# EAGLE library part ATSAME70N19 (library Atmel)
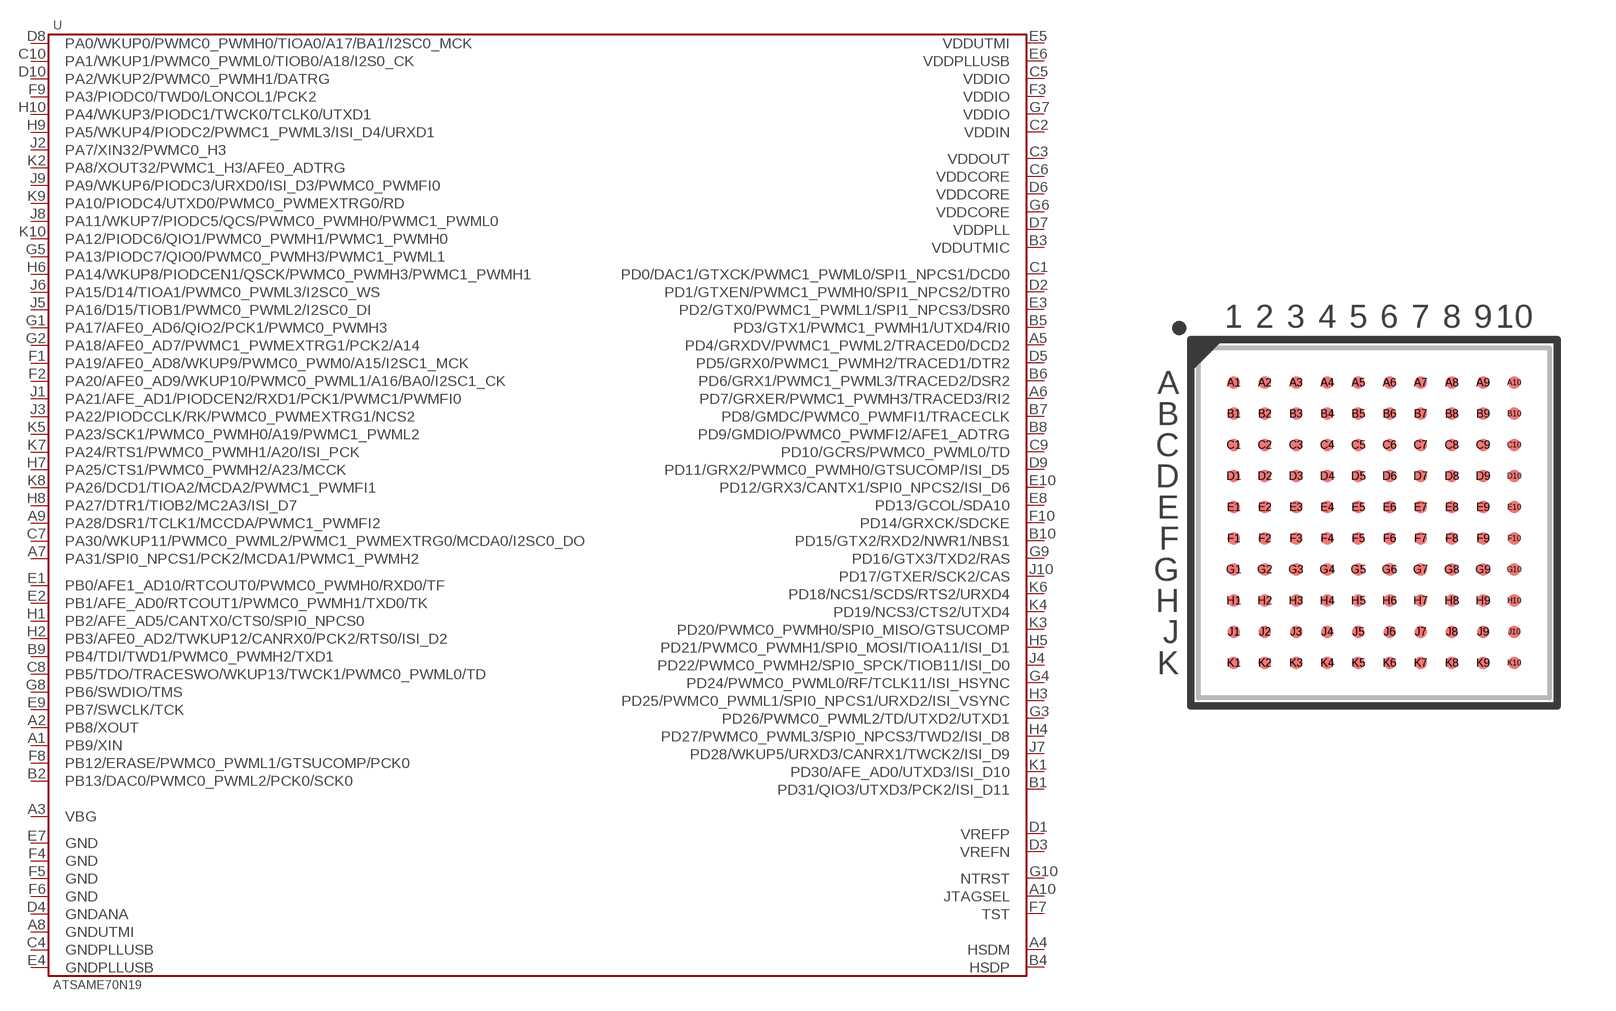
[diagram p25: symbol with the pads of TFBGA-100-9MM; footprint TFBGA-100-9MM]

Designator prefix U

## ATSAME70N19A-CN  [TFBGA-100-9MM]
A1  PB9/XIN
A2  PB8/XOUT
A3  VBG
A4  HSDM
A5  PD4/GRXDV/PWMC1_PWML2/TRACED0/DCD2
A6  PD7/GRXER/PWMC1_PWMH3/TRACED3/RI2
A7  PA31/SPI0_NPCS1/PCK2/MCDA1/PWMC1_PWMH2
A8  GNDUTMI
A9  PA28/DSR1/TCLK1/MCCDA/PWMC1_PWMFI2
A10  JTAGSEL
B1  PD31/QIO3/UTXD3/PCK2/ISI_D11
B2  PB13/DAC0/PWMC0_PWML2/PCK0/SCK0
B3  VDDUTMIC
B4  HSDP
B5  PD3/GTX1/PWMC1_PWMH1/UTXD4/RI0
B6  PD6/GRX1/PWMC1_PWML3/TRACED2/DSR2
B7  PD8/GMDC/PWMC0_PWMFI1/TRACECLK
B8  PD9/GMDIO/PWMC0_PWMFI2/AFE1_ADTRG
B9  PB4/TDI/TWD1/PWMC0_PWMH2/TXD1
B10  PD15/GTX2/RXD2/NWR1/NBS1
C1  PD0/DAC1/GTXCK/PWMC1_PWML0/SPI1_NPCS1/DCD0
C2  VDDIN
C3  VDDOUT
C4  GNDPLLUSB
C5  VDDIO
C6  VDDCORE
C7  PA30/WKUP11/PWMC0_PWML2/PWMC1_PWMEXTRG0/MCDA0/I2SC0_DO
C8  PB5/TDO/TRACESWO/WKUP13/TWCK1/PWMC0_PWML0/TD
C9  PD10/GCRS/PWMC0_PWML0/TD
C10  PA1/WKUP1/PWMC0_PWML0/TIOB0/A18/I2S0_CK
D1  VREFP
D2  PD1/GTXEN/PWMC1_PWMH0/SPI1_NPCS2/DTR0
D3  VREFN
D4  GNDANA
D5  PD5/GRX0/PWMC1_PWMH2/TRACED1/DTR2
D6  VDDCORE
D7  VDDPLL
D8  PA0/WKUP0/PWMC0_PWMH0/TIOA0/A17/BA1/I2SC0_MCK
D9  PD11/GRX2/PWMC0_PWMH0/GTSUCOMP/ISI_D5
D10  PA2/WKUP2/PWMC0_PWMH1/DATRG
E1  PB0/AFE1_AD10/RTCOUT0/PWMC0_PWMH0/RXD0/TF
E2  PB1/AFE_AD0/RTCOUT1/PWMC0_PWMH1/TXD0/TK
E3  PD2/GTX0/PWMC1_PWML1/SPI1_NPCS3/DSR0
E4  GNDPLLUSB
E5  VDDUTMI
E6  VDDPLLUSB
E7  GND
E8  PD13/GCOL/SDA10
E9  PB7/SWCLK/TCK
E10  PD12/GRX3/CANTX1/SPI0_NPCS2/ISI_D6
F1  PA19/AFE0_AD8/WKUP9/PWMC0_PWM0/A15/I2SC1_MCK
F2  PA20/AFE0_AD9/WKUP10/PWMC0_PWML1/A16/BA0/I2SC1_CK
F3  VDDIO
F4  GND
F5  GND
F6  GND
F7  TST
F8  PB12/ERASE/PWMC0_PWML1/GTSUCOMP/PCK0
F9  PA3/PIODC0/TWD0/LONCOL1/PCK2
F10  PD14/GRXCK/SDCKE
G1  PA17/AFE0_AD6/QIO2/PCK1/PWMC0_PWMH3
G2  PA18/AFE0_AD7/PWMC1_PWMEXTRG1/PCK2/A14
G3  PD26/PWMC0_PWML2/TD/UTXD2/UTXD1
G4  PD24/PWMC0_PWML0/RF/TCLK11/ISI_HSYNC
G5  PA13/PIODC7/QIO0/PWMC0_PWMH3/PWMC1_PWML1
G6  VDDCORE
G7  VDDIO
G8  PB6/SWDIO/TMS
G9  PD16/GTX3/TXD2/RAS
G10  NTRST
H1  PB2/AFE_AD5/CANTX0/CTS0/SPI0_NPCS0
H2  PB3/AFE0_AD2/TWKUP12/CANRX0/PCK2/RTS0/ISI_D2
H3  PD25/PWMC0_PWML1/SPI0_NPCS1/URXD2/ISI_VSYNC
H4  PD27/PWMC0_PWML3/SPI0_NPCS3/TWD2/ISI_D8
H5  PD21/PWMC0_PWMH1/SPI0_MOSI/TIOA11/ISI_D1
H6  PA14/WKUP8/PIODCEN1/QSCK/PWMC0_PWMH3/PWMC1_PWMH1
H7  PA25/CTS1/PWMC0_PWMH2/A23/MCCK
H8  PA27/DTR1/TIOB2/MC2A3/ISI_D7
H9  PA5/WKUP4/PIODC2/PWMC1_PWML3/ISI_D4/URXD1
H10  PA4/WKUP3/PIODC1/TWCK0/TCLK0/UTXD1
J1  PA21/AFE_AD1/PIODCEN2/RXD1/PCK1/PWMC1/PWMFI0
J2  PA7/XIN32/PWMC0_H3
J3  PA22/PIODCCLK/RK/PWMC0_PWMEXTRG1/NCS2
J4  PD22/PWMC0_PWMH2/SPI0_SPCK/TIOB11/ISI_D0
J5  PA16/D15/TIOB1/PWMC0_PWML2/I2SC0_DI
J6  PA15/D14/TIOA1/PWMC0_PWML3/I2SC0_WS
J7  PD28/WKUP5/URXD3/CANRX1/TWCK2/ISI_D9
J8  PA11/WKUP7/PIODC5/QCS/PWMC0_PWMH0/PWMC1_PWML0
J9  PA9/WKUP6/PIODC3/URXD0/ISI_D3/PWMC0_PWMFI0
J10  PD17/GTXER/SCK2/CAS
K1  PD30/AFE_AD0/UTXD3/ISI_D10
K2  PA8/XOUT32/PWMC1_H3/AFE0_ADTRG
K3  PD20/PWMC0_PWMH0/SPI0_MISO/GTSUCOMP
K4  PD19/NCS3/CTS2/UTXD4
K5  PA23/SCK1/PWMC0_PWMH0/A19/PWMC1_PWML2
K6  PD18/NCS1/SCDS/RTS2/URXD4
K7  PA24/RTS1/PWMC0_PWMH1/A20/ISI_PCK
K8  PA26/DCD1/TIOA2/MCDA2/PWMC1_PWMFI1
K9  PA10/PIODC4/UTXD0/PWMC0_PWMEXTRG0/RD
K10  PA12/PIODC6/QIO1/PWMC0_PWMH1/PWMC1_PWMH0

## Footprint TFBGA-100-9MM (pad centres in mm)
smd 0.32 x 0.32: A1 -3.6,3.6; A2 -2.8,3.6; A3 -2,3.6; A4 -1.2,3.6; A5 -0.4,3.6; A6 0.4,3.6; A7 1.2,3.6; A8 2,3.6; A9 2.8,3.6; A10 3.6,3.6; B1 -3.6,2.8; B2 -2.8,2.8; B3 -2,2.8; B4 -1.2,2.8; B5 -0.4,2.8; B6 0.4,2.8; B7 1.2,2.8; B8 2,2.8; B9 2.8,2.8; B10 3.6,2.8; C1 -3.6,2; C2 -2.8,2; C3 -2,2; C4 -1.2,2; C5 -0.4,2; C6 0.4,2; C7 1.2,2; C8 2,2; C9 2.8,2; C10 3.6,2; D1 -3.6,1.2; D2 -2.8,1.2; D3 -2,1.2; D4 -1.2,1.2; D5 -0.4,1.2; D6 0.4,1.2; D7 1.2,1.2; D8 2,1.2; D9 2.8,1.2; D10 3.6,1.2; E1 -3.6,0.4; E2 -2.8,0.4; E3 -2,0.4; E4 -1.2,0.4; E5 -0.4,0.4; E6 0.4,0.4; E7 1.2,0.4; E8 2,0.4; E9 2.8,0.4; E10 3.6,0.4; F1 -3.6,-0.4; F2 -2.8,-0.4; F3 -2,-0.4; F4 -1.2,-0.4; F5 -0.4,-0.4; F6 0.4,-0.4; F7 1.2,-0.4; F8 2,-0.4; F9 2.8,-0.4; F10 3.6,-0.4; G1 -3.6,-1.2; G2 -2.8,-1.2; G3 -2,-1.2; G4 -1.2,-1.2; G5 -0.4,-1.2; G6 0.4,-1.2; G7 1.2,-1.2; G8 2,-1.2; G9 2.8,-1.2; G10 3.6,-1.2; H1 -3.6,-2; H2 -2.8,-2; H3 -2,-2; H4 -1.2,-2; H5 -0.4,-2; H6 0.4,-2; H7 1.2,-2; H8 2,-2; H9 2.8,-2; H10 3.6,-2; J1 -3.6,-2.8; J2 -2.8,-2.8; J3 -2,-2.8; J4 -1.2,-2.8; J5 -0.4,-2.8; J6 0.4,-2.8; J7 1.2,-2.8; J8 2,-2.8; J9 2.8,-2.8; J10 3.6,-2.8; K1 -3.6,-3.6; K2 -2.8,-3.6; K3 -2,-3.6; K4 -1.2,-3.6; K5 -0.4,-3.6; K6 0.4,-3.6; K7 1.2,-3.6; K8 2,-3.6; K9 2.8,-3.6; K10 3.6,-3.6